# Altium footprint library CONN_SM02B-ZESS-TB_JST.PcbLib: 1 footprints
Each footprint in its own frame and in the unit in brackets; x right, y up, seen from the top. Pads: shape width x height; smd on the part's side, far side on the other; paste and mask are expansions set on the pad; w line width, h text height; cw(c..) or ccw(c..) is an arc to the next point about the centre after c.
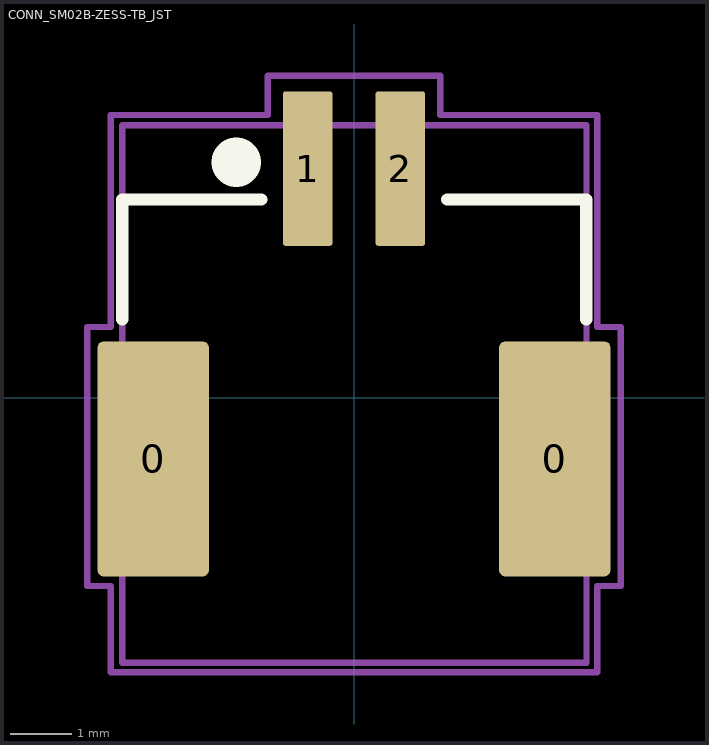
[diagram p0: the footprint, top view; thin cyan lines are the x and y axes]

## CONN_SM02B-ZESS-TB_JST [mm]
pads (4):
  rrect10% 1.8x3.8 smd: 0(-3.25,-0.994) 0(3.25,-0.994)
  rrect10% 0.8x2.5 smd: 1(-0.75,3.706) 2(0.75,3.706)
Top Overlay:
  circle w0.8: c-1.905,3.81 r0
  lines w0.2: -3.75,1.27 -3.75,3.206 -1.5,3.206 ; 1.511,3.206 3.761,3.206 3.761,1.27
Mechanical 13:
  lines w0.1: -3.75,-4.292 -3.75,4.406 3.761,4.406 3.761,-4.292 -3.75,-4.292
Mechanical 15:
  lines w0.1: -4.318,-3.048 -4.318,1.143 -3.937,1.143 -3.937,4.572 -1.397,4.572 -1.397,5.207 1.397,5.207 1.397,4.572 3.937,4.572 3.937,1.143 4.318,1.143 4.318,-3.048 3.937,-3.048 3.937,-4.445 -3.937,-4.445 -3.937,-3.048 -4.318,-3.048
3D body "SM02B-ZESS-TB.STEP": height 5.9, standoff 0, extent -3.75,-4.294 3.75,4.406